# EAGLE library part 74LVCH16T245 (library everykey)
16 channel (2x8) line driver with selectable DIR, OE and dual voltage supplies 1.6-5.5V. 32mA drive capability at 5V.
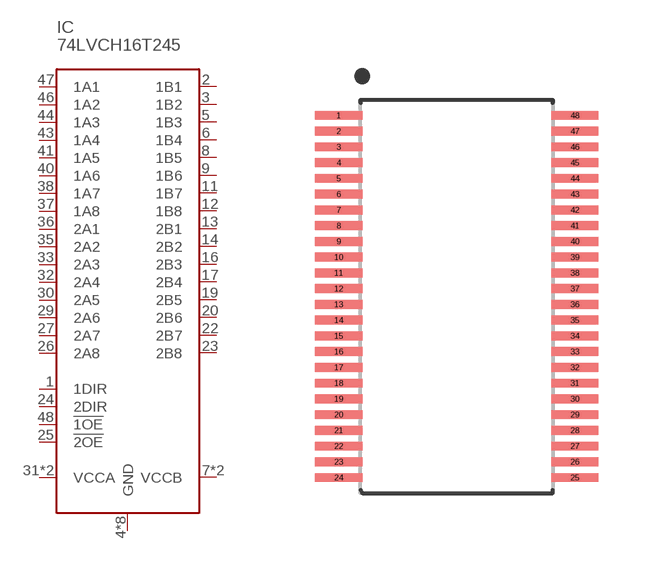
[diagram p63: symbol with the pads of TSSOP48-0.5-250MIL; footprint TSSOP48-0.5-250MIL]

Designator prefix IC

## 74LVCH16T245DGG  [TSSOP48-0.5-250MIL]
1  1DIR  in
2  1B1
3  1B2
4  GND  pwr
5  1B3
6  1B4
7  VCCB  pwr
8  1B5
9  1B6
10  GND  pwr
11  1B7
12  1B8
13  2B1
14  2B2
15  GND  pwr
16  2B3
17  2B4
18  VCCB  pwr
19  2B5
20  2B6
21  GND  pwr
22  2B7
23  2B8
24  2DIR  in
25  !2OE  in
26  2A8
27  2A7
28  GND  pwr
29  2A6
30  2A5
31  VCCA  pwr
32  2A4
33  2A3
34  GND  pwr
35  2A2
36  2A1
37  1A8
38  1A7
39  GND  pwr
40  1A6
41  1A5
42  VCCA  pwr
43  1A4
44  1A3
45  GND  pwr
46  1A2
47  1A1
48  !1OE  in

## Footprint TSSOP48-0.5-250MIL (pad centres in mm)
48 pin TSSOP, 0.5mm pitch. Recommended IC body width: 6.1mm, width over all: 8.2mm
smd 1.5 x 0.28: 1 -3.75,5.75; 2 -3.75,5.25; 3 -3.75,4.75; 4 -3.75,4.25; 5 -3.75,3.75; 6 -3.75,3.25; 7 -3.75,2.75; 8 -3.75,2.25; 9 -3.75,1.75; 10 -3.75,1.25; 11 -3.75,0.75; 12 -3.75,0.25; 13 -3.75,-0.25; 14 -3.75,-0.75; 15 -3.75,-1.25; 16 -3.75,-1.75; 17 -3.75,-2.25; 18 -3.75,-2.75; 19 -3.75,-3.25; 20 -3.75,-3.75; 21 -3.75,-4.25; 22 -3.75,-4.75; 23 -3.75,-5.25; 24 -3.75,-5.75; 25 3.75,-5.75; 26 3.75,-5.25; 27 3.75,-4.75; 28 3.75,-4.25; 29 3.75,-3.75; 30 3.75,-3.25; 31 3.75,-2.75; 32 3.75,-2.25; 33 3.75,-1.75; 34 3.75,-1.25; 35 3.75,-0.75; 36 3.75,-0.25; 37 3.75,0.25; 38 3.75,0.75; 39 3.75,1.25; 40 3.75,1.75; 41 3.75,2.25; 42 3.75,2.75; 43 3.75,3.25; 44 3.75,3.75; 45 3.75,4.25; 46 3.75,4.75; 47 3.75,5.25; 48 3.75,5.75